# Altium footprint library NixiePSU.PcbLib: 1 footprints
Each footprint in its own frame and in the unit in brackets; x right, y up, seen from the top. Pads: shape width x height; smd on the part's side, far side on the other; paste and mask are expansions set on the pad; w line width, h text height; cw(c..) or ccw(c..) is an arc to the next point about the centre after c.
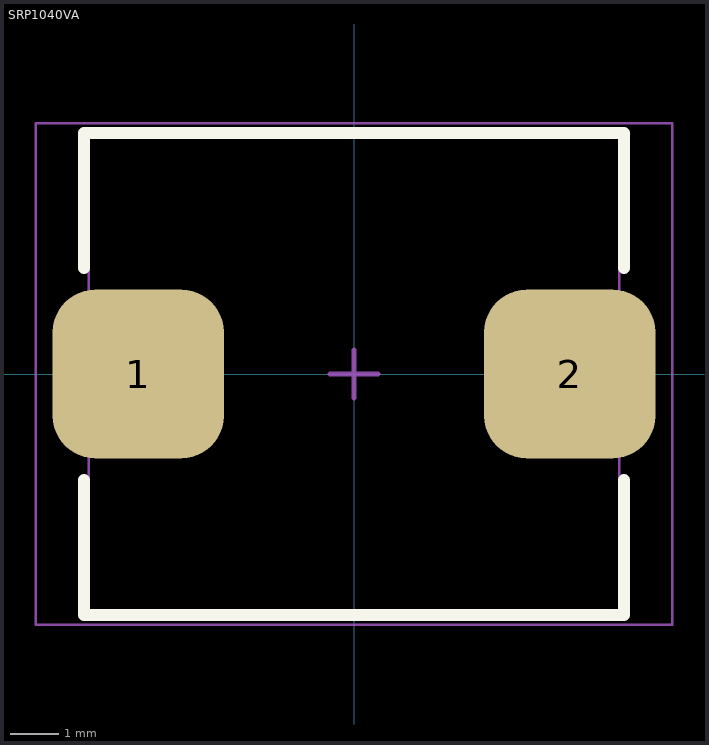
[diagram p0: the footprint, top view; thin cyan lines are the x and y axes]

## SRP1040VA [mm]
height 4
pads (2):
  rrect50% 3.55x3.5 smd: 1(-4.475,0) 2(4.475,0)
Top Overlay:
  lines w0.254: -5.6,-2.2 -5.6,-5 5.6,-5 5.6,-2.2 ; -5.6,2.2 -5.6,5 5.6,5 5.6,2.2
Mechanical 13 (Mech13):
  lines w0.05: -5.5,-5 -5.5,5 5.5,5 5.5,-5 -5.5,-5
Mechanical 15:
  lines w0.05: -6.6,-5.2 -6.6,5.2 6.6,5.2 6.6,-5.2 -6.6,-5.2
  lines w0.1: -0.5,0 0.5,0 ; 0,-0.5 0,0.5
3D body "SRP1040VA SERIES.stp": height 3.81, standoff 0, extent -5.5,-5 5.5,5